# EAGLE library part TPS61085 (library texas)
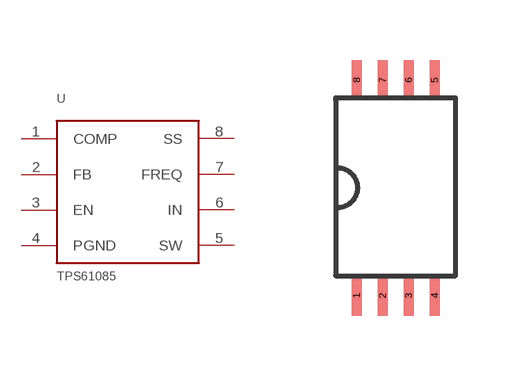
[diagram p3: symbol with the pads of TSSOP8; footprint TSSOP8]

Designator prefix -

## TPS61085  [TSSOP8]
1  COMP
2  FB
3  EN
4  PGND
5  SW
6  IN
7  FREQ
8  SS

## Footprint TSSOP8 (pad centres in mm)
smd 0.25 x 1: 1 -0.975,-2.7; 2 -0.325,-2.7; 3 0.325,-2.7; 4 0.975,-2.7; 5 0.975,2.7; 6 0.325,2.7; 7 -0.325,2.7; 8 -0.975,2.7